# Altium schematic symbol library SCH - MCU - STM32 - ST MICROELECTRONICS STM32WL5MOCHX LGA92.SchLib: 1 symbol
Pins are listed as number, name and electrical type; pins without a type are passive.

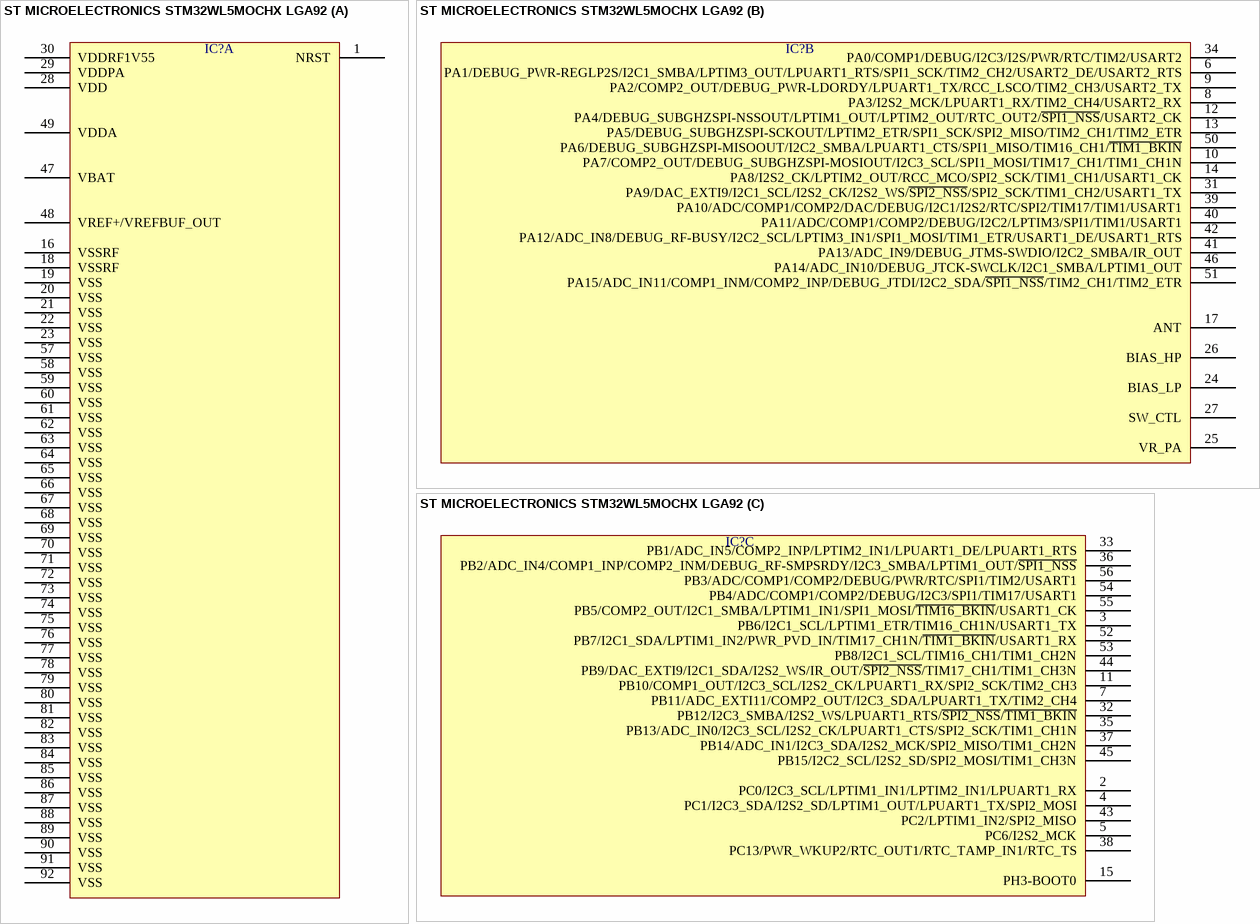
[diagram p0: symbol ST MICROELECTRONICS STM32WL5MOCHX LGA92]

## ST MICROELECTRONICS STM32WL5MOCHX LGA92
designator IC?  (value not drawn)
part A pins: 1 NRST, 16 VSSRF, 18 VSSRF, 19 VSS, 20 VSS, 21 VSS, 22 VSS, 23 VSS, 28 VDD, 29 VDDPA, 30 VDDRF1V55, 47 VBAT, 48 VREF+/VREFBUF_OUT, 49 VDDA, 57 VSS, 58 VSS, 59 VSS, 60 VSS, 61 VSS, 62 VSS, 63 VSS, 64 VSS, 65 VSS, 66 VSS, 67 VSS, 68 VSS, 69 VSS, 70 VSS, 71 VSS, 72 VSS, 73 VSS, 74 VSS, 75 VSS, 76 VSS, 77 VSS, 78 VSS, 79 VSS, 80 VSS, 81 VSS, 82 VSS, 83 VSS, 84 VSS, 85 VSS, 86 VSS, 87 VSS, 88 VSS, 89 VSS, 90 VSS, 91 VSS, 92 VSS
part B pins: 6 PA1/DEBUG_PWR-REGLP2S/I2C1_SMBA/LPTIM3_OUT/LPUART1_RTS/SPI1_SCK/TIM2_CH2/USART2_DE/USART2_RTS, 8 PA3/I2S2_MCK/LPUART1_RX/TIM2_CH4/USART2_RX, 9 PA2/COMP2_OUT/DEBUG_PWR-LDORDY/LPUART1_TX/RCC_LSCO/TIM2_CH3/USART2_TX, 10 PA7/COMP2_OUT/DEBUG_SUBGHZSPI-MOSIOUT/I2C3_SCL/SPI1_MOSI/TIM17_CH1/TIM1_CH1N, 12 PA4/DEBUG_SUBGHZSPI-NSSOUT/LPTIM1_OUT/LPTIM2_OUT/RTC_OUT2/~{SPI1_NSS}/USART2_CK, 13 PA5/DEBUG_SUBGHZSPI-SCKOUT/LPTIM2_ETR/SPI1_SCK/SPI2_MISO/TIM2_CH1/TIM2_ETR, 14 PA8/I2S2_CK/LPTIM2_OUT/RCC_MCO/SPI2_SCK/TIM1_CH1/USART1_CK, 17 ANT, 24 BIAS_LP, 25 VR_PA, 26 BIAS_HP, 27 SW_CTL, 31 PA9/DAC_EXTI9/I2C1_SCL/I2S2_CK/I2S2_WS/~{SPI2_NSS}/SPI2_SCK/TIM1_CH2/USART1_TX, 34 PA0/COMP1/DEBUG/I2C3/I2S/PWR/RTC/TIM2/USART2, 39 PA10/ADC/COMP1/COMP2/DAC/DEBUG/I2C1/I2S2/RTC/SPI2/TIM17/TIM1/USART1, 40 PA11/ADC/COMP1/COMP2/DEBUG/I2C2/LPTIM3/SPI1/TIM1/USART1, 41 PA13/ADC_IN9/DEBUG_JTMS-SWDIO/I2C2_SMBA/IR_OUT, 42 PA12/ADC_IN8/DEBUG_RF-BUSY/I2C2_SCL/LPTIM3_IN1/SPI1_MOSI/TIM1_ETR/USART1_DE/USART1_RTS, 46 PA14/ADC_IN10/DEBUG_JTCK-SWCLK/I2C1_SMBA/LPTIM1_OUT, 50 PA6/DEBUG_SUBGHZSPI-MISOOUT/I2C2_SMBA/LPUART1_CTS/SPI1_MISO/TIM16_CH1/~{TIM1_BKIN}, 51 PA15/ADC_IN11/COMP1_INM/COMP2_INP/DEBUG_JTDI/I2C2_SDA/~{SPI1_NSS}/TIM2_CH1/TIM2_ETR
part C pins: 2 PC0/I2C3_SCL/LPTIM1_IN1/LPTIM2_IN1/LPUART1_RX, 3 PB6/I2C1_SCL/LPTIM1_ETR/TIM16_CH1N/USART1_TX, 4 PC1/I2C3_SDA/I2S2_SD/LPTIM1_OUT/LPUART1_TX/SPI2_MOSI, 5 PC6/I2S2_MCK, 7 PB11/ADC_EXTI11/COMP2_OUT/I2C3_SDA/LPUART1_TX/TIM2_CH4, 11 PB10/COMP1_OUT/I2C3_SCL/I2S2_CK/LPUART1_RX/SPI2_SCK/TIM2_CH3, 15 PH3-BOOT0, 32 PB12/I2C3_SMBA/I2S2_WS/LPUART1_RTS/~{SPI2_NSS}/~{TIM1_BKIN}, 33 PB1/ADC_IN5/COMP2_INP/LPTIM2_IN1/LPUART1_DE/LPUART1_RTS, 35 PB13/ADC_IN0/I2C3_SCL/I2S2_CK/LPUART1_CTS/SPI2_SCK/TIM1_CH1N, 36 PB2/ADC_IN4/COMP1_INP/COMP2_INM/DEBUG_RF-SMPSRDY/I2C3_SMBA/LPTIM1_OUT/~{SPI1_NSS}, 37 PB14/ADC_IN1/I2C3_SDA/I2S2_MCK/SPI2_MISO/TIM1_CH2N, 38 PC13/PWR_WKUP2/RTC_OUT1/RTC_TAMP_IN1/RTC_TS, 43 PC2/LPTIM1_IN2/SPI2_MISO, 44 PB9/DAC_EXTI9/I2C1_SDA/I2S2_WS/IR_OUT/~{SPI2_NSS}/TIM17_CH1/TIM1_CH3N, 45 PB15/I2C2_SCL/I2S2_SD/SPI2_MOSI/TIM1_CH3N, 52 PB7/I2C1_SDA/LPTIM1_IN2/PWR_PVD_IN/TIM17_CH1N/~{TIM1_BKIN}/USART1_RX, 53 PB8/I2C1_SCL/TIM16_CH1/TIM1_CH2N, 54 PB4/ADC/COMP1/COMP2/DEBUG/I2C3/SPI1/TIM17/USART1, 55 PB5/COMP2_OUT/I2C1_SMBA/LPTIM1_IN1/SPI1_MOSI/~{TIM16_BKIN}/USART1_CK, 56 PB3/ADC/COMP1/COMP2/DEBUG/PWR/RTC/SPI1/TIM2/USART1